# Altium footprint library DISP - LED.PcbLib: 18 footprints (part 2 of 2)
Each footprint in its own frame and in the unit in brackets; x right, y up, seen from the top. Pads: shape width x height; smd on the part's side, far side on the other; paste and mask are expansions set on the pad; w line width, h text height; cw(c..) or ccw(c..) is an arc to the next point about the centre after c.
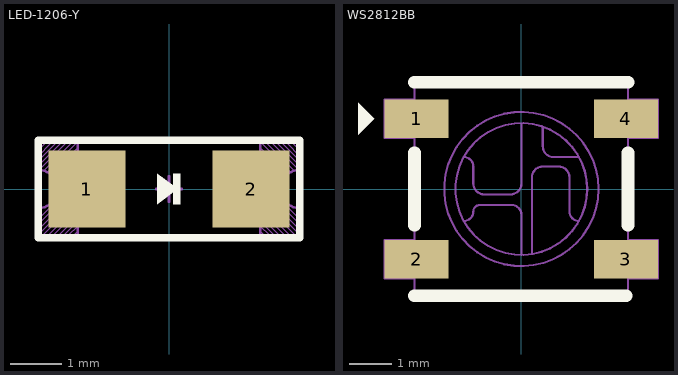
[diagram p1: the footprints below, top view; thin cyan lines are the x and y axes]

## LED-1206-Y [mm] "LED-1206-Orange"
pads (2):
  rect 1.5x1.5 smd mask+0.1: 1(-1.6,0) 2(1.6,0)
Top Overlay:
  region: 0.225,0.3 0.075,0.3 0.075,-0.3 0.225,-0.3
  region: -0.225,-0.3 -0.225,0.3 0.175,0
  lines w0.15: -2.55,-0.95 -2.55,0.95 2.55,0.95 2.55,-0.95 -2.55,-0.95
Top HCB:
  lines w0.01: -2.55,0.45 -2.1,0.9 ; -2.55,0.55 -2.2,0.9 ; -2.55,0.638 -2.3,0.9 ; -2.55,0.75 -2.4,0.9 ; -2.543,-0.882 -1.768,-0.107 ; -2.543,-0.782 -1.775,-0.025 ; -2.543,-0.682 -1.781,0.08 ; -2.543,-0.582 -1.775,0.175 ; -2.538,0.363 -2,0.9 -2.027,0.9 ; -2.456,-0.895 -1.775,-0.225 ; -2.426,0.374 -1.9,0.9 ; -2.368,-0.907 -1.775,-0.325 ; -2.363,0.337 -1.8,0.9 ; -2.294,0.293 -1.781,0.806 ; -2.268,-0.907 -1.768,-0.407 ; -2.237,0.237 -1.774,0.7 ; -2.201,-0.14 -1.781,0.28 ; -2.201,0.06 -1.768,0.493 ; -2.188,0.173 -1.775,0.575 ; -2.175,0 -1.77,0.394 ; -2.15,-0.9 -1.775,-0.525 ; -2.05,-0.9 -1.775,-0.625 ; -1.956,-0.895 -1.775,-0.725 ; -1.868,-0.907 -1.775,-0.825 ; 1.768,-0.407 2.268,-0.907 ; 1.768,-0.107 2.543,-0.882 ; 1.768,0.493 2.201,0.06 ; 1.77,0.394 2.175,0 ; 1.774,0.7 2.237,0.237 ; 1.775,-0.825 1.868,-0.907 ; 1.775,-0.725 1.956,-0.895 ; 1.775,-0.625 2.05,-0.9 ; 1.775,-0.525 2.15,-0.9 ; 1.775,-0.325 2.368,-0.907 ; 1.775,-0.225 2.456,-0.895 ; 1.775,-0.025 2.543,-0.782 ; 1.775,0.175 2.543,-0.582 ; 1.775,0.575 2.188,0.173 ; 1.781,0.08 2.543,-0.682 ; 1.781,0.28 2.201,-0.14 ; 1.781,0.806 2.294,0.293 ; 1.8,0.9 2.363,0.337 ; 1.9,0.9 2.426,0.374 ; 2.027,0.9 2,0.9 2.538,0.363 ; 2.1,0.9 2.55,0.45 ; 2.2,0.9 2.55,0.55 ; 2.3,0.9 2.55,0.638 ; 2.4,0.9 2.55,0.75
  lines w0.05: -1.775,-0.9 -1.775,0.9 ; -0.25,0 0.25,0 ; 0,-0.25 0,0.25 ; 1.775,-0.9 1.775,0.9 ; -2.55,-0.95 2.55,-0.95 2.55,-0.375 cw(c2.55,0) 2.55,0.375 2.55,0.95 -2.55,0.95 -2.55,0.375 cw(c-2.55,0) -2.55,-0.375 -2.55,-0.95
3D body "User Library-led_1206-yellow.step": height 1.1, standoff 0, extent -1.61,-0.8 1.61,0.8

## WS2812BB [mm]
pads (4):
  rect 1.5x0.9 smd: 1(-2.45,1.65) 2(-2.45,-1.65) 3(2.45,-1.65) 4(2.45,1.65)
Top Overlay:
  region: -3.45,1.65 -3.825,2.025 -3.825,1.275
  lines w0.3: -2.5,-2.5 2.45,-2.5 ; -2.5,-0.85 -2.5,0.85 ; -2.5,2.5 2.5,2.5 ; 2.5,-0.85 2.5,0.85
Top HCB:
  circle w0.05: c0,0 r1.806
  circle w0.05: c0,0 r1.544
  lines w0.05: -1.35,-0.75 ccw(c-1.35,-0.525) -1.125,-0.525 cw(c-0.975,-0.525) -0.975,-0.375 -0.875,-0.375 -0.225,-0.375 cw(c-0.225,-0.6) 0,-0.6 0,-1.544 ; -1.35,0.75 cw(c-1.35,0.525) -1.125,0.525 -1.125,0.125 ccw(c-0.875,0.125) -0.875,-0.125 -0.25,-0.125 ccw(c-0.25,0.125) 0,0.125 0,1.2 0,1.525 ; 0.25,-1.525 0.25,0.275 cw(c0.5,0.275) 0.5,0.525 0.875,0.525 cw(c0.875,0.275) 1.125,0.275 1.125,-0.525 ccw(c1.35,-0.525) 1.35,-0.75 ; 0.5,1.45 0.5,1 ccw(c0.75,1) 0.75,0.75 1.35,0.75 ; -3.2,-2.1 -2.5,-2.1 -2.5,-2.5 2.5,-2.5 2.5,-2.1 3.2,-2.1 3.2,-1.2 2.5,-1.2 2.5,1.2 3.2,1.2 3.2,2.1 2.5,2.1 2.5,2.5 -2.5,2.5 -2.5,2.1 -3.2,2.1 -3.2,1.2 -2.5,1.2 -2.5,-1.2 -3.2,-1.2 -3.2,-2.1
  text "VDD" at -2.959,1.49 h0.5
  text "VSS" at 2.065,-1.86 h0.5
  text "DIN" at 2.151,1.49 h0.5
  text "DOUT" at -3.111,-1.86 h0.5
3D body "User Library-ws2812B-1.STEP": height 1.6, standoff 0.03, extent -2.7,-2.5 2.7,2.5